# Altium footprint library SPICEBot_PCBLib.PcbLib: 16 footprints
Each footprint in its own frame and in the unit in brackets; x right, y up, seen from the top. Pads: shape width x height; smd on the part's side, far side on the other; paste and mask are expansions set on the pad; w line width, h text height; cw(c..) or ccw(c..) is an arc to the next point about the centre after c.
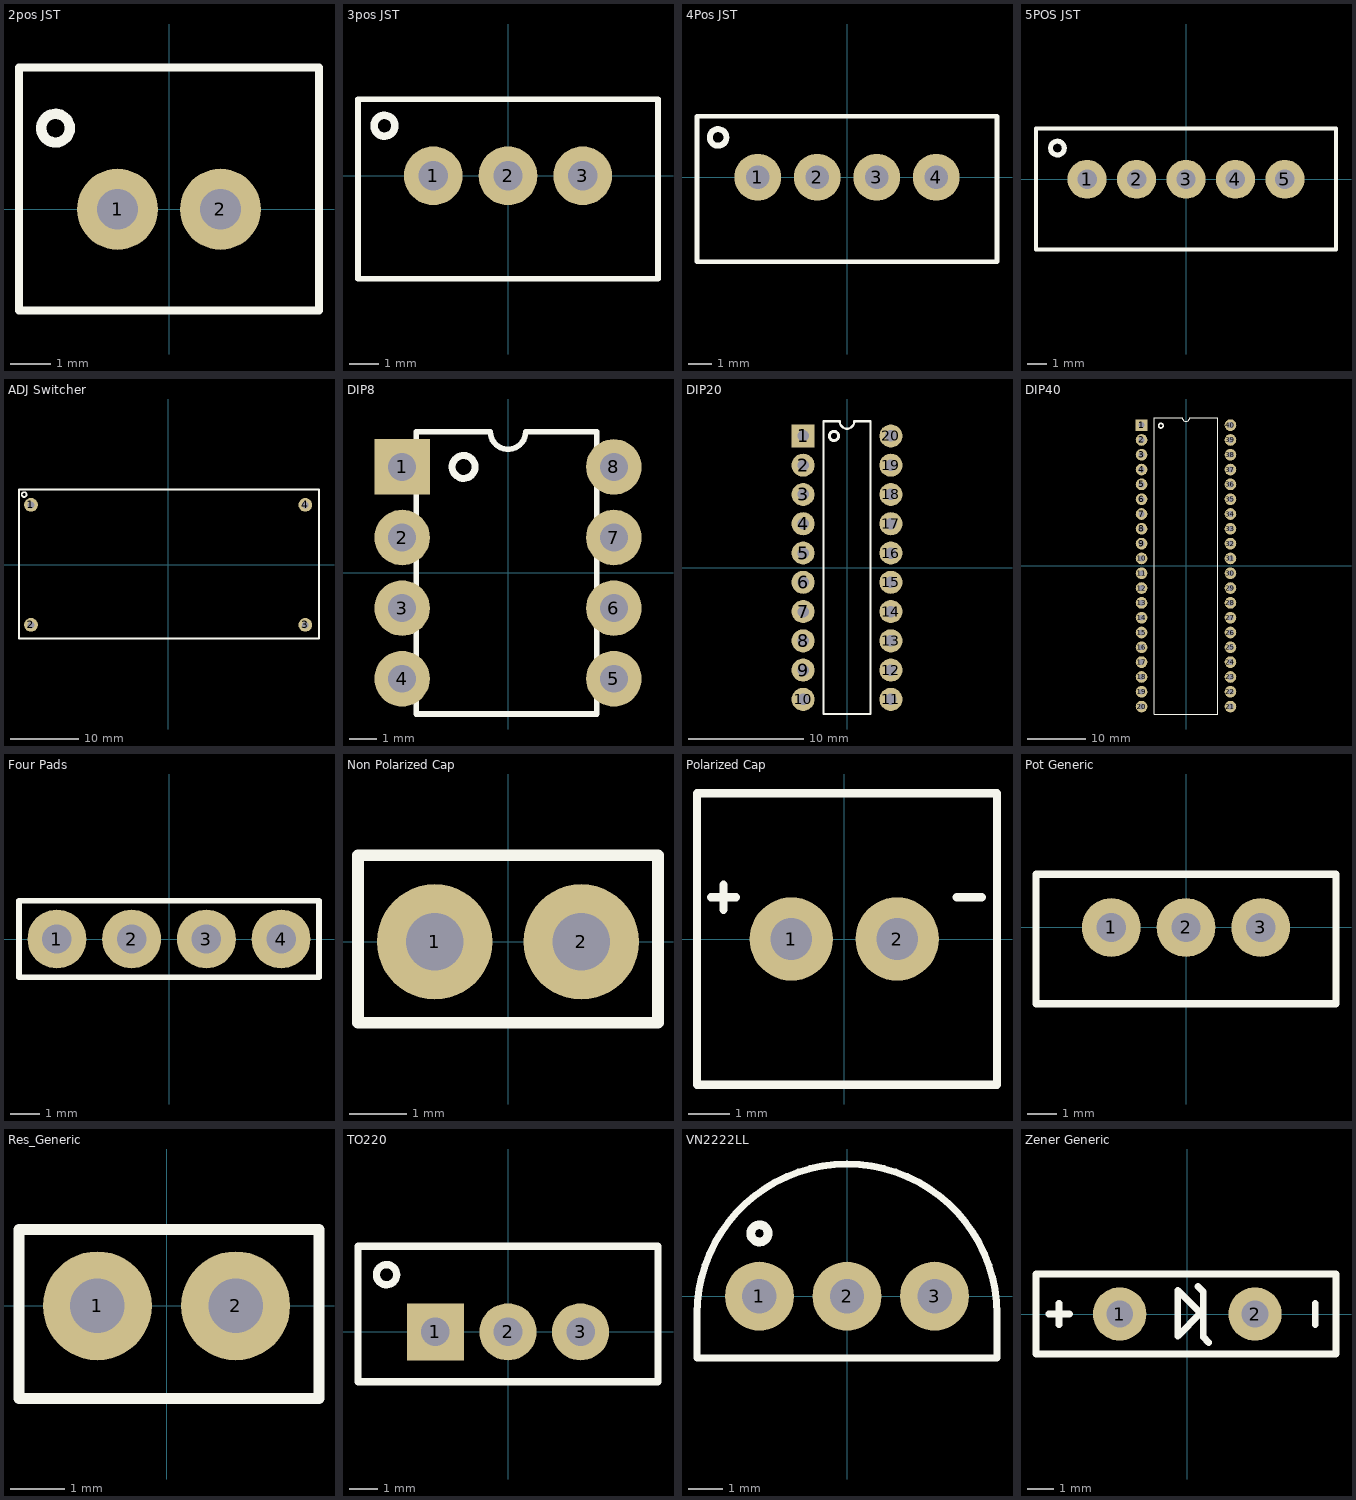
[diagram p0: the footprints below, top view; thin cyan lines are the x and y axes]

## 2pos JST [mm]
pads (2):
  round 2 hole 1: 1(-1.27,0) 2(1.27,0)
Top Overlay:
  circle w0.254: c-2.8,2 r0.354
  lines w0.2: -3.7,-2.5 3.7,-2.5 3.7,3.5 -3.7,3.5 -3.7,-2.5
3D body "B2B-XH-A-LF--SN---3DModel-STEP-269445.STEP": height 7.01, standoff -3.39, extent -3.7,-2.4 3.7,3.35

## 3pos JST [mm]
pads (3):
  round 2 hole 1: 1(-2.54,0) 2(0,0) 3(2.54,0)
Top Overlay:
  circle w0.254: c-4.2,1.7 r0.354
  lines w0.2: -5.1,-3.5 -5.1,2.6 5.1,2.6 5.1,-3.5 -5.1,-3.5
3D body "B3B-XH-A-LF--SN---3DModel-STEP-418109.STEP": height 7, standoff -3.4, extent -4.95,-3.35 4.95,2.4

## 4Pos JST [mm]
pads (4):
  round 2 hole 1: 1(-3.81,0) 2(-1.27,0) 3(1.27,0) 4(3.81,0)
Top Overlay:
  circle w0.254: c-5.5,1.7 r0.354
  lines w0.2: -6.4,-3.6 6.4,-3.6 6.4,2.6 -6.4,2.6 -6.4,-3.6
3D body "B4B-XH-A-LF--SN---3DModel-STEP-418109.STEP": height 7.01, standoff -3.39, extent -6.2,-3.375 6.2,2.375

## 5POS JST [mm]
pads (5):
  round 2 hole 1: 1(-5.08,0) 2(-2.54,0) 3(0,0) 4(2.54,0) 5(5.08,0)
Top Overlay:
  circle w0.254: c-6.6,1.6 r0.354
  lines w0.2: -7.7,-3.6 -7.7,2.6 7.7,2.6 7.7,-3.6 -7.7,-3.6
3D body "B5B-XH-A-LF--SN---3DModel-STEP-418109.STEP": height 7, standoff -3.4, extent -7.45,-3.402 7.45,2.348

## ADJ Switcher [mm]
pads (4):
  round 2 hole 1: 1(-20,8.75) 2(-20,-8.75) 3(20,-8.75) 4(20,8.75)
Top Overlay:
  circle w0.254: c-21,10.25 r0.354
  lines w0.254: -21.75,-10.75 -21.75,11 21.75,11 22,11 22,-10.75 -21.75,-10.75
3D body "LM2596 DC to DC Buck Converter 3 A.STEP": height 13.36, standoff -1.79, extent -21.5,-10.5 21.7,10.75

## DIP8 [mm]
pads (8):
  rect 2x2 hole 1: 1(-3.81,3.81)
  round 2 hole 1: 2(-3.81,1.27) 3(-3.81,-1.27) 4(-3.81,-3.81) 5(3.81,-3.81) 6(3.81,-1.27) 7(3.81,1.27) 8(3.81,3.81)
Top Overlay:
  circle w0.254: c-1.597,3.81 r0.412
  lines w0.2: 0.635,5.08 cw(c0,5.08) -0.635,5.08 -3.3,5.08 -3.3,-5.08 3.2,-5.08 3.2,5.08 0.7,5.08
3D body "TL082IP.STEP": height 5.33, standoff -3.56, extent -3.965,-4.794 3.909,4.794

## DIP20 [mm]
pads (20):
  rect 2x2 hole 1: 1(-3.81,11.43)
  round 2 hole 1: 2(-3.81,8.89) 3(-3.81,6.35) 4(-3.81,3.81) 5(-3.81,1.27) 6(-3.81,-1.27) 7(-3.81,-3.81) 8(-3.81,-6.35) 9(-3.81,-8.89) 10(-3.81,-11.43) 11(3.81,-11.43) 12(3.81,-8.89) 13(3.81,-6.35) 14(3.81,-3.81) 15(3.81,-1.27) 16(3.81,1.27) 17(3.81,3.81) 18(3.81,6.35) 19(3.81,8.89) 20(3.81,11.43)
Top Overlay:
  circle w0.254: c-1.128,11.43 r0.4
  lines w0.2: -2.043,-12.7 2.043,-12.7 2.043,12.7 0.635,12.7 cw(c0,12.7) -0.635,12.7 -2.043,12.7 -2.043,-12.7
3D body "PDIP-20_N_LIT.step": height 3.81, standoff -2.54, extent -4.092,-13.394 4.036,13.53

## DIP40 [mm]
pads (40):
  rect 2x2 hole 1: 1(-7.62,24.13)
  round 2 hole 1: 2(-7.62,21.59) 3(-7.62,19.05) 4(-7.62,16.51) 5(-7.62,13.97) 6(-7.62,11.43) 7(-7.62,8.89) 8(-7.62,6.35) 9(-7.62,3.81) 10(-7.62,1.27) 11(-7.62,-1.27) 12(-7.62,-3.81) 13(-7.62,-6.35) 14(-7.62,-8.89) 15(-7.62,-11.43) 16(-7.62,-13.97) 17(-7.62,-16.51) 18(-7.62,-19.05) 19(-7.62,-21.59) 20(-7.62,-24.13) 21(7.62,-24.13) 22(7.62,-21.59) 23(7.62,-19.05) 24(7.62,-16.51) 25(7.62,-13.97) 26(7.62,-11.43) 27(7.62,-8.89) 28(7.62,-6.35) 29(7.62,-3.81) 30(7.62,-1.27) 31(7.62,1.27) 32(7.62,3.81) 33(7.62,6.35) 34(7.62,8.89) 35(7.62,11.43) 36(7.62,13.97) 37(7.62,16.51) 38(7.62,19.05) 39(7.62,21.59) 40(7.62,24.13)
Top Overlay:
  circle w0.254: c-4.3,24.03 r0.4
  lines w0.2: -5.415,-25.4 -5.415,25.4 -0.635,25.4 ccw(c0,25.4) 0.635,25.4 5.415,25.4 5.415,-25.4 -5.415,-25.4
3D body "20-Pin Header - Female - 2.54mm.step": height 4.71, standoff -3.29, extent -8.7,-25.67 -6.2,25.63
3D body "20-Pin Header - Female - 2.54mm.step": height 4.71, standoff -3.29, extent 6.3,-25.67 8.8,25.63

## Four Pads [mm]
pads (4):
  round 2 hole 1: 1(-3.81,0) 2(-1.27,0) 3(1.27,0) 4(3.81,0)
Top Overlay:
  lines w0.2: -5.1,-1.3 5.1,-1.3 5.1,1.3 -5.1,1.3 -5.1,-1.3

## Non Polarized Cap [mm] "Cap Generic THT"
pads (2):
  round 2 hole 1: 1(-1.27,0) 2(1.27,0)
Top Overlay:
  lines w0.2: -2.6,-1.4 2.6,-1.4 2.6,1.5 -2.6,1.5 -2.6,-1.4
3D body "User Library-K104M15X7RF53L2.STEP": height 6, standoff -2.5, extent -2,-1.2 2,1.3

## Polarized Cap [mm]
pads (2):
  round 2 hole 1: 1(-1.27,0) 2(1.27,0)
Top Overlay:
  lines w0.2: -3.2,1 -2.6,1 ; -2.9,0.7 -2.9,1.3 ; 2.7,1 3.3,1 ; -3.534,-3.5 3.665,-3.5 3.665,3.5 -3.534,3.5 -3.534,-3.5
3D body "cpol-v_p2-5_d6-5_h11-5.stp": height 11.37, standoff -3.49, extent -3.252,-3.217 3.252,3.277

## Pot Generic [mm]
pads (3):
  round 2 hole 1: 1(-2.54,0) 2(0,0) 3(2.54,0)
Top Overlay:
  lines w0.254: -5.1,-2.6 -5.1,1.816 5.1,1.816 5.1,-2.6 -5.1,-2.6
3D body "3290W001.stp": height 12.91, standoff -5.88, extent -4.889,-2.38 4.889,1.633

## Res_Generic [mm] "Cap Generic THT Footprint"
pads (2):
  round 2 hole 1: 1(-1.27,0) 2(1.27,0)
Top Overlay:
  lines w0.2: -2.71,-1.7 2.8,-1.7 2.8,1.4 -2.71,1.4 -2.71,-1.7
3D body "Resistor TH vertical 2,54.stp": height 8.18, standoff -2, extent -1.465,-1.3 2.4,1

## TO220 [mm]
pads (3):
  rect 2x2 hole 1: 1(-2.54,0)
  round 2 hole 1: 2(0,0) 3(2.54,0)
Top Overlay:
  circle w0.254: c-4.25,2 r0.354
  lines w0.254: -5.25,-1.75 -5.25,3 5.25,3 5.25,-1.75 -5.25,-1.75
3D body "KCS0003B.stp": height 19.6, standoff -8.76, extent -5.08,-1.664 5.08,2.906

## VN2222LL [mm]
pads (3):
  round 2 hole 1: 1(-2.54,0) 2(0,0) 3(2.54,0)
Top Overlay:
  circle w0.254: c-2.54,1.821 r0.25
  lines w0.2: 4.348,-0.522 4.348,-1.8 -4.352,-1.8 -4.352,-0.518 cw(c0,-0.518) 4.352,-0.518
3D body "2N2222_1677484790.214.step": height 7.82, standoff -9.27, extent -2.783,-1.281 2.783,2.404

## Zener Generic [mm]
pads (2):
  round 2 hole 1: 1(-2.54,0) 2(2.54,0)
Top Overlay:
  lines w0.254: -5.199,0 -4.417,0 ; -4.817,-0.4 -4.817,0.4 ; 0.4,1.032 0.6,0.832 0.6,-0.868 0.8,-1.068 ; 4.8,-0.4 4.8,0.4 ; -5.678,-1.5 5.578,-1.5 5.578,1.5 -4.3,1.5 -5.678,1.5 -5.678,-1.5 ; -0.355,-0.823 0.5,0.032 -0.355,0.887 -0.355,-0.823
3D body "D_5W_P5.08mm_Vertical_AnodeUp.step": height 11.55, standoff -3, extent -3.119,-1.857 4.366,1.857